# Altium integrated library Linear Technology PMIC-Switching Reg LT1074-LT8705.IntLib: 2252 symbols (part 98 of 124)
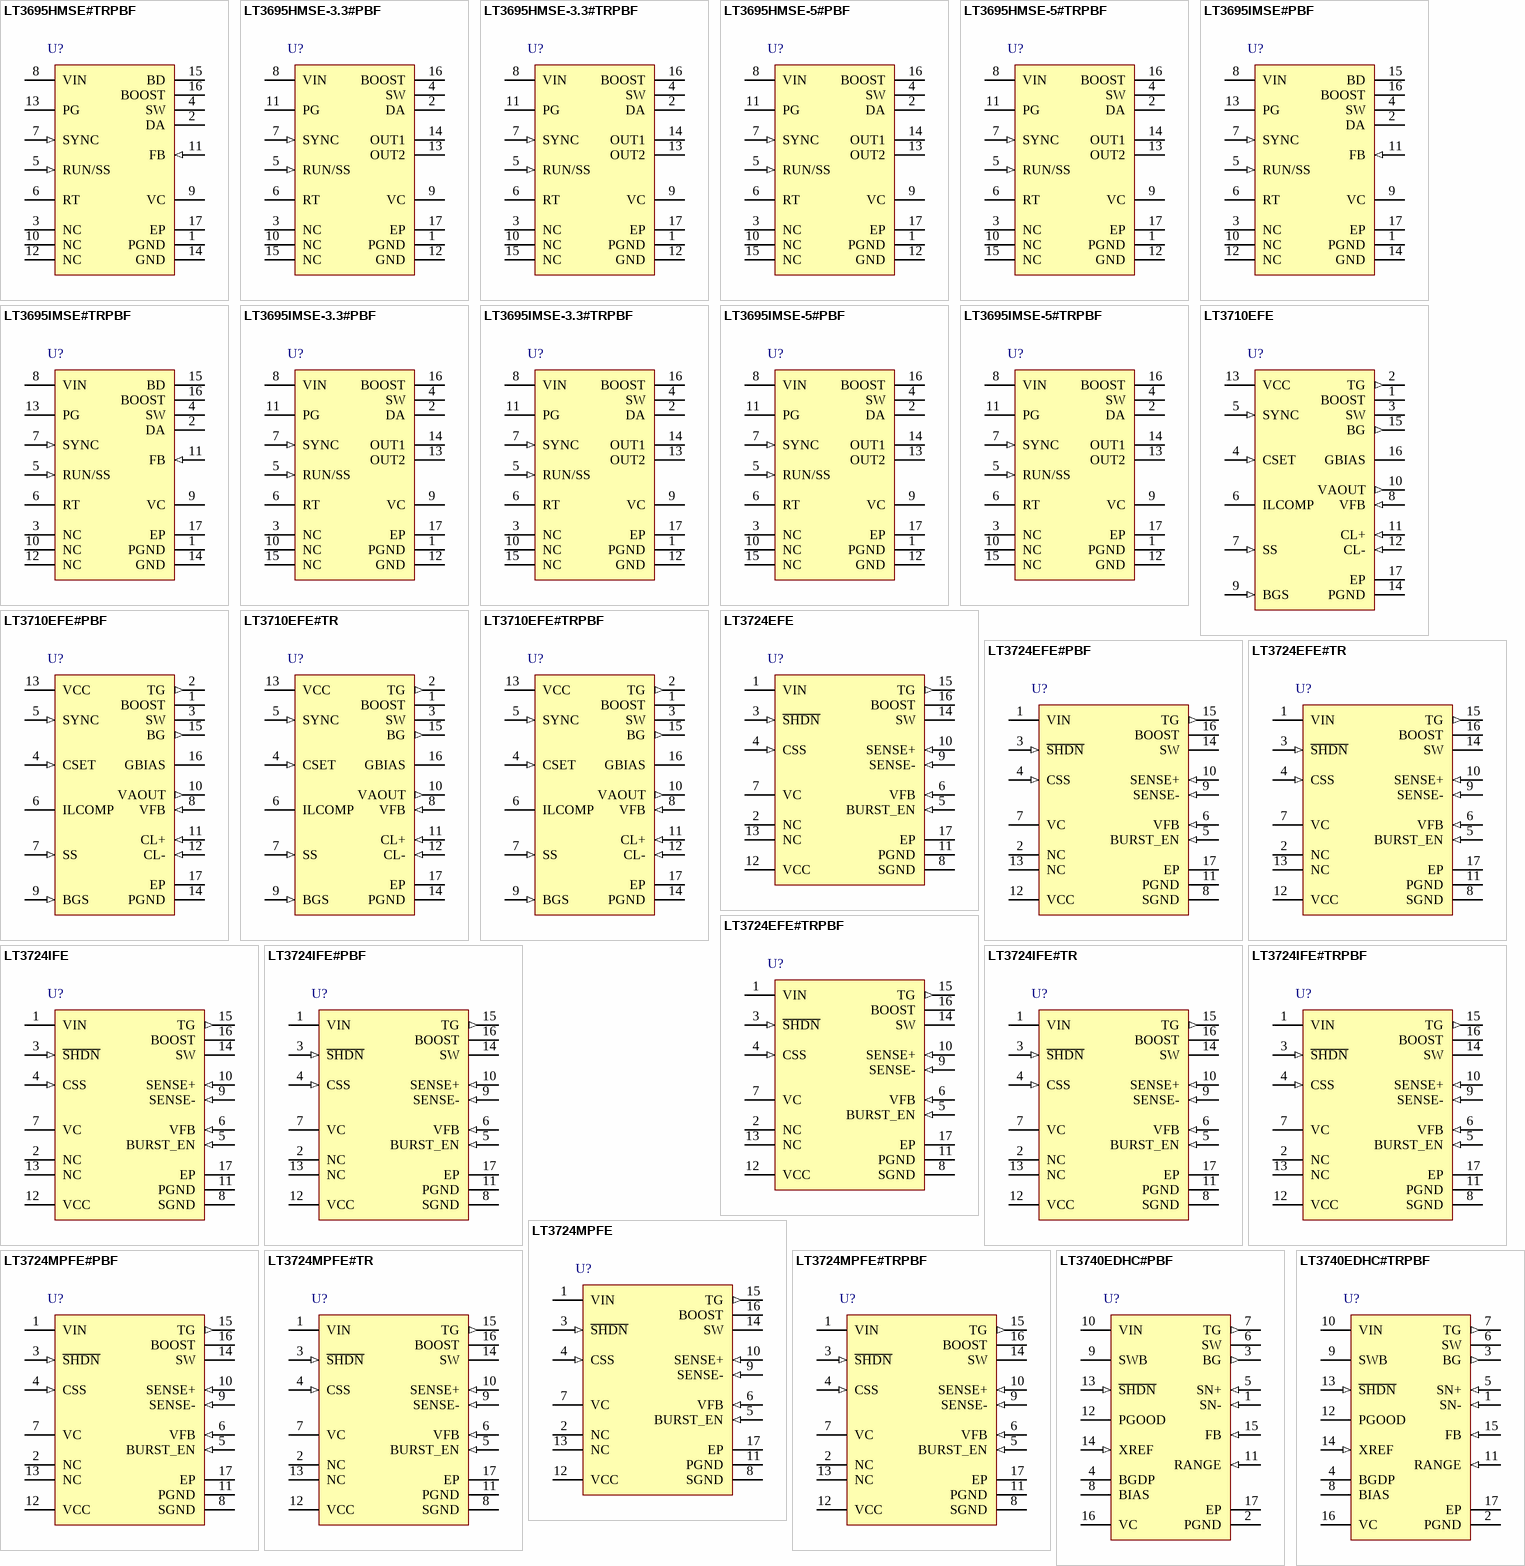
[diagram p168: symbols LT3695HMSE#TRPBF to LT3740EDHC#TRPBF]

## LT3724MPFE#PBF
designator U?
High Voltage, Current Mode Switching Regulator Controller, 16-pin SOP (FE-16-EPV-BC), -55 to 125 degC, Pb-Free; Manufacturer: Linear Technology; PartNumber: LT3724MPFE#PBF; Number of Outputs: 1; PackageReference: FE-16; PackageDescription: 16-Pin Plastic TSSOP, Body 5 x 4.4 mm, Pitch 0.65 mm; Supplier 1: Digi-Key; Supplier Part Number 1: LT3724MPFE#PBF-ND; RoHS: TRUE
footprint LT-FE-16-EPV-BC_N (SOP, 16-Leads, Body 5.1x4.5mm, Pitch 0.65mm, Thermal Pad 3.58x2.94mm, IPC Medium Density)
footprint LT-FE-16-EPV-BC_L (SOP, 16-Leads, Body 5.1x4.5mm, Pitch 0.65mm, Thermal Pad 3.58x2.94mm, IPC High Density)
footprint LT-FE-16-EPV-BC_M (SOP, 16-Leads, Body 5.1x4.5mm, Pitch 0.65mm, Thermal Pad 3.58x2.94mm, IPC Low Density)
pins: 1 VIN (power) "The VIN pin is the main supply pin and should be decoupled to SGND with a low ESR capacitor located close to the pin.", 2 NC "No Connection.", 3 ~{SHDN} (in) "The S\H\D\N\ pin has a precision IC enable threshold of 1.35V (rising) with 120mV of hysteresis. It is used to implement an undervoltage lockout (UVLO) circuit. See Application Information section for implementing a UVLO (See Datasheet)", 4 CSS (in) "The soft-start pin is used to program the supply soft-start function. The pin is connected to VOUT via a ceramic capacitor (CSS) and 200kohm series resistor. During start-up, the supply output voltage slew rate is controlled (See Datasheet)", 5 BURST_EN (in) "The BURST_EN pin is used to enable or disable Burst Mode operation. Connect the BURST_EN pin to ground to enable the burst mode function. Connect the pin to VCC to disable the burst mode function.", 6 VFB (in) "The output voltage feedback pin, VFB, is externally connected to the supply output voltage via a resistive divider. The VFB pin is internally connected to the inverting input of the error amplifier. In regulation, VFB is 1.(See Datasheet)", 7 VC "The VC pin is the output of the error amplifier whose voltage corresponds to the maximum (peak) switch current per oscillator cycle. The error amplifier is typically configured as an integrator circuit by connecting an RC (See Datasheet)", 8 SGND (power) "The SGND pin is the low noise ground reference. It should be connected to the -VOUT side of the output capacitors. Careful layout of the PCB is necessary to keep high currents away from this SGND connection. See the (See Datasheet)", 9 SENSE- (in) "The SENSE- pin is the negative input for the current sense amplifier and is connected to the VOUT side of the sense resistor for step-down applications. The sensed inductor current limit is set to 150mV across the SENSE (See Datasheet)", 10 SENSE+ (in) "The SENSE+ pin is the positive input for the current sense amplifier and is connected to the inductor side of the sense resistor for step-down applications. The sensed inductor current limit is set to 150mV across the SENSE (See Datasheet)", 11 PGND (power) "The PGND pin is the high-current ground reference for internal low side switch and the VCC regulator circuit. Connect the pin directly to the negative terminal of the VCC decoupling capacitor. See the Application Information (See Datasheet)", 12 VCC (power) "The VCC pin is the internal bias supply decoupling node. Use a low ESR 1uF ceramic capacitor to decouple this node to PGND. Most internal IC functions are powered from this bias supply. An external diode connected from VCC (See Datasheet)", 13 NC "No Connection.", 14 SW "In step-down applications the SW pin is connected to the cathode of an external clamping Schottky diode, the source of the power MOSFET and the inductor. The SW node voltage swing is from VIN during the on-time of the power (See Datasheet)", 15 TG (out) "The TG pin is the bootstrapped gate drive for the top N-Channel MOSFET. Since very fast high currents are driven from this pin, connect it to the gate of the power MOSFET with a short and wide, typically 0.02?width, PC(See Datasheet)", 16 BOOST "The BOOST pin is the supply for the bootstrapped gate drive and is externally connected to a low ESR ceramic boost capacitor referenced to SW pin. The recommended value of the BOOST capacitor, CBOOST, is 50 times greater (See Datasheet)", 17 EP (power) "The exposed leadframe is internally connected to the SGND pin. Solder the exposed pad to the PCB ground for electrical contact and optimal thermal performance."

## LT3724MPFE#TR
designator U?
High Voltage, Current Mode Switching Regulator Controller, 16-pin SOP (FE-16-EPV-BC), -55 to 125 degC, Tape and Reel; Manufacturer: Linear Technology; PartNumber: LT3724MPFE#TR; Number of Outputs: 1; PackageReference: FE-16; PackageDescription: 16-Pin Plastic TSSOP, Body 5 x 4.4 mm, Pitch 0.65 mm; RoHS: FALSE
footprint LT-FE-16-EPV-BC_N (SOP, 16-Leads, Body 5.1x4.5mm, Pitch 0.65mm, Thermal Pad 3.58x2.94mm, IPC Medium Density)
footprint LT-FE-16-EPV-BC_L (SOP, 16-Leads, Body 5.1x4.5mm, Pitch 0.65mm, Thermal Pad 3.58x2.94mm, IPC High Density)
footprint LT-FE-16-EPV-BC_M (SOP, 16-Leads, Body 5.1x4.5mm, Pitch 0.65mm, Thermal Pad 3.58x2.94mm, IPC Low Density)
pins: 1 VIN (power) "The VIN pin is the main supply pin and should be decoupled to SGND with a low ESR capacitor located close to the pin.", 2 NC "No Connection.", 3 ~{SHDN} (in) "The S\H\D\N\ pin has a precision IC enable threshold of 1.35V (rising) with 120mV of hysteresis. It is used to implement an undervoltage lockout (UVLO) circuit. See Application Information section for implementing a UVLO (See Datasheet)", 4 CSS (in) "The soft-start pin is used to program the supply soft-start function. The pin is connected to VOUT via a ceramic capacitor (CSS) and 200kohm series resistor. During start-up, the supply output voltage slew rate is controlled (See Datasheet)", 5 BURST_EN (in) "The BURST_EN pin is used to enable or disable Burst Mode operation. Connect the BURST_EN pin to ground to enable the burst mode function. Connect the pin to VCC to disable the burst mode function.", 6 VFB (in) "The output voltage feedback pin, VFB, is externally connected to the supply output voltage via a resistive divider. The VFB pin is internally connected to the inverting input of the error amplifier. In regulation, VFB is 1.(See Datasheet)", 7 VC "The VC pin is the output of the error amplifier whose voltage corresponds to the maximum (peak) switch current per oscillator cycle. The error amplifier is typically configured as an integrator circuit by connecting an RC (See Datasheet)", 8 SGND (power) "The SGND pin is the low noise ground reference. It should be connected to the -VOUT side of the output capacitors. Careful layout of the PCB is necessary to keep high currents away from this SGND connection. See the (See Datasheet)", 9 SENSE- (in) "The SENSE- pin is the negative input for the current sense amplifier and is connected to the VOUT side of the sense resistor for step-down applications. The sensed inductor current limit is set to 150mV across the SENSE (See Datasheet)", 10 SENSE+ (in) "The SENSE+ pin is the positive input for the current sense amplifier and is connected to the inductor side of the sense resistor for step-down applications. The sensed inductor current limit is set to 150mV across the SENSE (See Datasheet)", 11 PGND (power) "The PGND pin is the high-current ground reference for internal low side switch and the VCC regulator circuit. Connect the pin directly to the negative terminal of the VCC decoupling capacitor. See the Application Information (See Datasheet)", 12 VCC (power) "The VCC pin is the internal bias supply decoupling node. Use a low ESR 1uF ceramic capacitor to decouple this node to PGND. Most internal IC functions are powered from this bias supply. An external diode connected from VCC (See Datasheet)", 13 NC "No Connection.", 14 SW "In step-down applications the SW pin is connected to the cathode of an external clamping Schottky diode, the source of the power MOSFET and the inductor. The SW node voltage swing is from VIN during the on-time of the power (See Datasheet)", 15 TG (out) "The TG pin is the bootstrapped gate drive for the top N-Channel MOSFET. Since very fast high currents are driven from this pin, connect it to the gate of the power MOSFET with a short and wide, typically 0.02?width, PC(See Datasheet)", 16 BOOST "The BOOST pin is the supply for the bootstrapped gate drive and is externally connected to a low ESR ceramic boost capacitor referenced to SW pin. The recommended value of the BOOST capacitor, CBOOST, is 50 times greater (See Datasheet)", 17 EP (power) "The exposed leadframe is internally connected to the SGND pin. Solder the exposed pad to the PCB ground for electrical contact and optimal thermal performance."

## LT3724MPFE#TRPBF
designator U?
High Voltage, Current Mode Switching Regulator Controller, 16-pin SOP (FE-16-EPV-BC), -55 to 125 degC, Pb-Free, Tape and Reel; Manufacturer: Linear Technology; PartNumber: LT3724MPFE#TRPBF; Number of Outputs: 1; PackageReference: FE-16; PackageDescription: 16-Pin Plastic TSSOP, Body 5 x 4.4 mm, Pitch 0.65 mm; Supplier 1: Digi-Key; Supplier Part Number 1: LT3724MPFE#TRPBF-ND; RoHS: TRUE
footprint LT-FE-16-EPV-BC_N (SOP, 16-Leads, Body 5.1x4.5mm, Pitch 0.65mm, Thermal Pad 3.58x2.94mm, IPC Medium Density)
footprint LT-FE-16-EPV-BC_L (SOP, 16-Leads, Body 5.1x4.5mm, Pitch 0.65mm, Thermal Pad 3.58x2.94mm, IPC High Density)
footprint LT-FE-16-EPV-BC_M (SOP, 16-Leads, Body 5.1x4.5mm, Pitch 0.65mm, Thermal Pad 3.58x2.94mm, IPC Low Density)
pins: 1 VIN (power) "The VIN pin is the main supply pin and should be decoupled to SGND with a low ESR capacitor located close to the pin.", 2 NC "No Connection.", 3 ~{SHDN} (in) "The S\H\D\N\ pin has a precision IC enable threshold of 1.35V (rising) with 120mV of hysteresis. It is used to implement an undervoltage lockout (UVLO) circuit. See Application Information section for implementing a UVLO (See Datasheet)", 4 CSS (in) "The soft-start pin is used to program the supply soft-start function. The pin is connected to VOUT via a ceramic capacitor (CSS) and 200kohm series resistor. During start-up, the supply output voltage slew rate is controlled (See Datasheet)", 5 BURST_EN (in) "The BURST_EN pin is used to enable or disable Burst Mode operation. Connect the BURST_EN pin to ground to enable the burst mode function. Connect the pin to VCC to disable the burst mode function.", 6 VFB (in) "The output voltage feedback pin, VFB, is externally connected to the supply output voltage via a resistive divider. The VFB pin is internally connected to the inverting input of the error amplifier. In regulation, VFB is 1.(See Datasheet)", 7 VC "The VC pin is the output of the error amplifier whose voltage corresponds to the maximum (peak) switch current per oscillator cycle. The error amplifier is typically configured as an integrator circuit by connecting an RC (See Datasheet)", 8 SGND (power) "The SGND pin is the low noise ground reference. It should be connected to the -VOUT side of the output capacitors. Careful layout of the PCB is necessary to keep high currents away from this SGND connection. See the (See Datasheet)", 9 SENSE- (in) "The SENSE- pin is the negative input for the current sense amplifier and is connected to the VOUT side of the sense resistor for step-down applications. The sensed inductor current limit is set to 150mV across the SENSE (See Datasheet)", 10 SENSE+ (in) "The SENSE+ pin is the positive input for the current sense amplifier and is connected to the inductor side of the sense resistor for step-down applications. The sensed inductor current limit is set to 150mV across the SENSE (See Datasheet)", 11 PGND (power) "The PGND pin is the high-current ground reference for internal low side switch and the VCC regulator circuit. Connect the pin directly to the negative terminal of the VCC decoupling capacitor. See the Application Information (See Datasheet)", 12 VCC (power) "The VCC pin is the internal bias supply decoupling node. Use a low ESR 1uF ceramic capacitor to decouple this node to PGND. Most internal IC functions are powered from this bias supply. An external diode connected from VCC (See Datasheet)", 13 NC "No Connection.", 14 SW "In step-down applications the SW pin is connected to the cathode of an external clamping Schottky diode, the source of the power MOSFET and the inductor. The SW node voltage swing is from VIN during the on-time of the power (See Datasheet)", 15 TG (out) "The TG pin is the bootstrapped gate drive for the top N-Channel MOSFET. Since very fast high currents are driven from this pin, connect it to the gate of the power MOSFET with a short and wide, typically 0.02?width, PC(See Datasheet)", 16 BOOST "The BOOST pin is the supply for the bootstrapped gate drive and is externally connected to a low ESR ceramic boost capacitor referenced to SW pin. The recommended value of the BOOST capacitor, CBOOST, is 50 times greater (See Datasheet)", 17 EP (power) "The exposed leadframe is internally connected to the SGND pin. Solder the exposed pad to the PCB ground for electrical contact and optimal thermal performance."

## LT3740EDHC#PBF
designator U?
Wide Operating Range, Valley Mode, No Rsense Synchronous Step-Down Controller, 16-pin SON (DHC-16), -40 to 85 degC, Pb-Free; Manufacturer: Linear Technology; PartNumber: LT3740EDHC#PBF; Number of Outputs: 1; PackageReference: DHC-16; PackageDescription: 16-Pin Plastic DFN, Body 5 x 3 mm, Pitch 0.5 mm; Supplier 1: Digi-Key; Supplier Part Number 1: LT3740EDHC#PBF-ND; RoHS: TRUE
footprint LT-DHC-16_V (SON, 16-Leads, Body 5x3mm, Pitch 0.5mm, Thermal Pad 4.4X1.65mm)
pins: 1 SN- (in) "Negative Current Sensing Pin. Connect this pin to the source of the bottom MOSFET for No RSENSE or to a current sense resistor.", 2 PGND (power) "Power Ground. Connect this pin closely to the source of the bottom N-channel MOSFET.", 3 BG (out) "Bottom Gate Drive. Drives the gate of the bottom N-channel MOSFET.", 4 BGDP (power) "Bottom Gate Drive Power Supply. Connect this pin to a voltage source higher than 7V (VIN or BIAS).", 5 SN+ (in) "Positive Current Sensing Pin. Connect this pin to the drain of the bottom MOSFET for No RSENSE or to a current sense resistor.", 6 SW "Switch Node. Connect this pin to the source of the top N-channel MOSFET and the drain of the bottom N-channel MOSFET.", 7 TG (out) "Top Gate Drive. Drives the gate of the top N-channel MOSFET to BIAS.", 8 BIAS (power) "Top Gate Drive Power Supply. Connect a capacitor between this pin and VIN.", 9 SWB "Switch Pin of the Internal Boost. Connect the boost inductor here.", 10 VIN (power) "Input Supply Pin. Must be locally bypassed with a capacitor.", 11 RANGE (in) "Current Limit Range Select Pin. Ground this pin for 50mV current sense voltage limit. Leave this pin open for 80mV current sense voltage limit. Connect this pin to VIN for current sense voltage limit of 105mV.", 12 PGOOD (oc) "Power Good Output. Open collector logic output that is pulled low when the FB voltage lower than 720mV.", 13 ~{SHDN} (in) "Shutdown Pin. Connect to 2.5V or higher to enable device; 0.5V or less to disable device. Also, this pin functions as soft-start when a voltage ramp is applied.", 14 XREF (in) "External Reference Pin. This pin sets the FB voltage externally between 0V and 0.8V. It can be used to slave the output voltage during normal operation or the output start-up behavior to an external signal source. Tie this (See Datasheet)", 15 FB (in) "Feedback Pin. Pin voltage is regulated to 0.8V if internal reference is used or to the XREF pin if voltage is between 0V and 0.8V. Connect the feedback resistor divider to this pin.", 16 VC "Error Ampli?er Compensation Pin. Connect the external compensation RC to this pin. The current comparator threshold increases with the voltage of this pin.", 17 EP (power) "Ground. Must be soldered to PCB ground."

## LT3740EDHC#TRPBF
designator U?
Wide Operating Range, Valley Mode, No Rsense Synchronous Step-Down Controller, 16-pin SON (DHC-16), -40 to 85 degC, Pb-Free, Tape and Reel; Manufacturer: Linear Technology; PartNumber: LT3740EDHC#TRPBF; Number of Outputs: 1; PackageReference: DHC-16; PackageDescription: 16-Pin Plastic DFN, Body 5 x 3 mm, Pitch 0.5 mm; Supplier 1: Digi-Key; Supplier Part Number 1: LT3740EDHC#TRPBF-ND; RoHS: TRUE
footprint LT-DHC-16_V (SON, 16-Leads, Body 5x3mm, Pitch 0.5mm, Thermal Pad 4.4X1.65mm)
pins: 1 SN- (in) "Negative Current Sensing Pin. Connect this pin to the source of the bottom MOSFET for No RSENSE or to a current sense resistor.", 2 PGND (power) "Power Ground. Connect this pin closely to the source of the bottom N-channel MOSFET.", 3 BG (out) "Bottom Gate Drive. Drives the gate of the bottom N-channel MOSFET.", 4 BGDP (power) "Bottom Gate Drive Power Supply. Connect this pin to a voltage source higher than 7V (VIN or BIAS).", 5 SN+ (in) "Positive Current Sensing Pin. Connect this pin to the drain of the bottom MOSFET for No RSENSE or to a current sense resistor.", 6 SW "Switch Node. Connect this pin to the source of the top N-channel MOSFET and the drain of the bottom N-channel MOSFET.", 7 TG (out) "Top Gate Drive. Drives the gate of the top N-channel MOSFET to BIAS.", 8 BIAS (power) "Top Gate Drive Power Supply. Connect a capacitor between this pin and VIN.", 9 SWB "Switch Pin of the Internal Boost. Connect the boost inductor here.", 10 VIN (power) "Input Supply Pin. Must be locally bypassed with a capacitor.", 11 RANGE (in) "Current Limit Range Select Pin. Ground this pin for 50mV current sense voltage limit. Leave this pin open for 80mV current sense voltage limit. Connect this pin to VIN for current sense voltage limit of 105mV.", 12 PGOOD (oc) "Power Good Output. Open collector logic output that is pulled low when the FB voltage lower than 720mV.", 13 ~{SHDN} (in) "Shutdown Pin. Connect to 2.5V or higher to enable device; 0.5V or less to disable device. Also, this pin functions as soft-start when a voltage ramp is applied.", 14 XREF (in) "External Reference Pin. This pin sets the FB voltage externally between 0V and 0.8V. It can be used to slave the output voltage during normal operation or the output start-up behavior to an external signal source. Tie this (See Datasheet)", 15 FB (in) "Feedback Pin. Pin voltage is regulated to 0.8V if internal reference is used or to the XREF pin if voltage is between 0V and 0.8V. Connect the feedback resistor divider to this pin.", 16 VC "Error Ampli?er Compensation Pin. Connect the external compensation RC to this pin. The current comparator threshold increases with the voltage of this pin.", 17 EP (power) "Ground. Must be soldered to PCB ground."

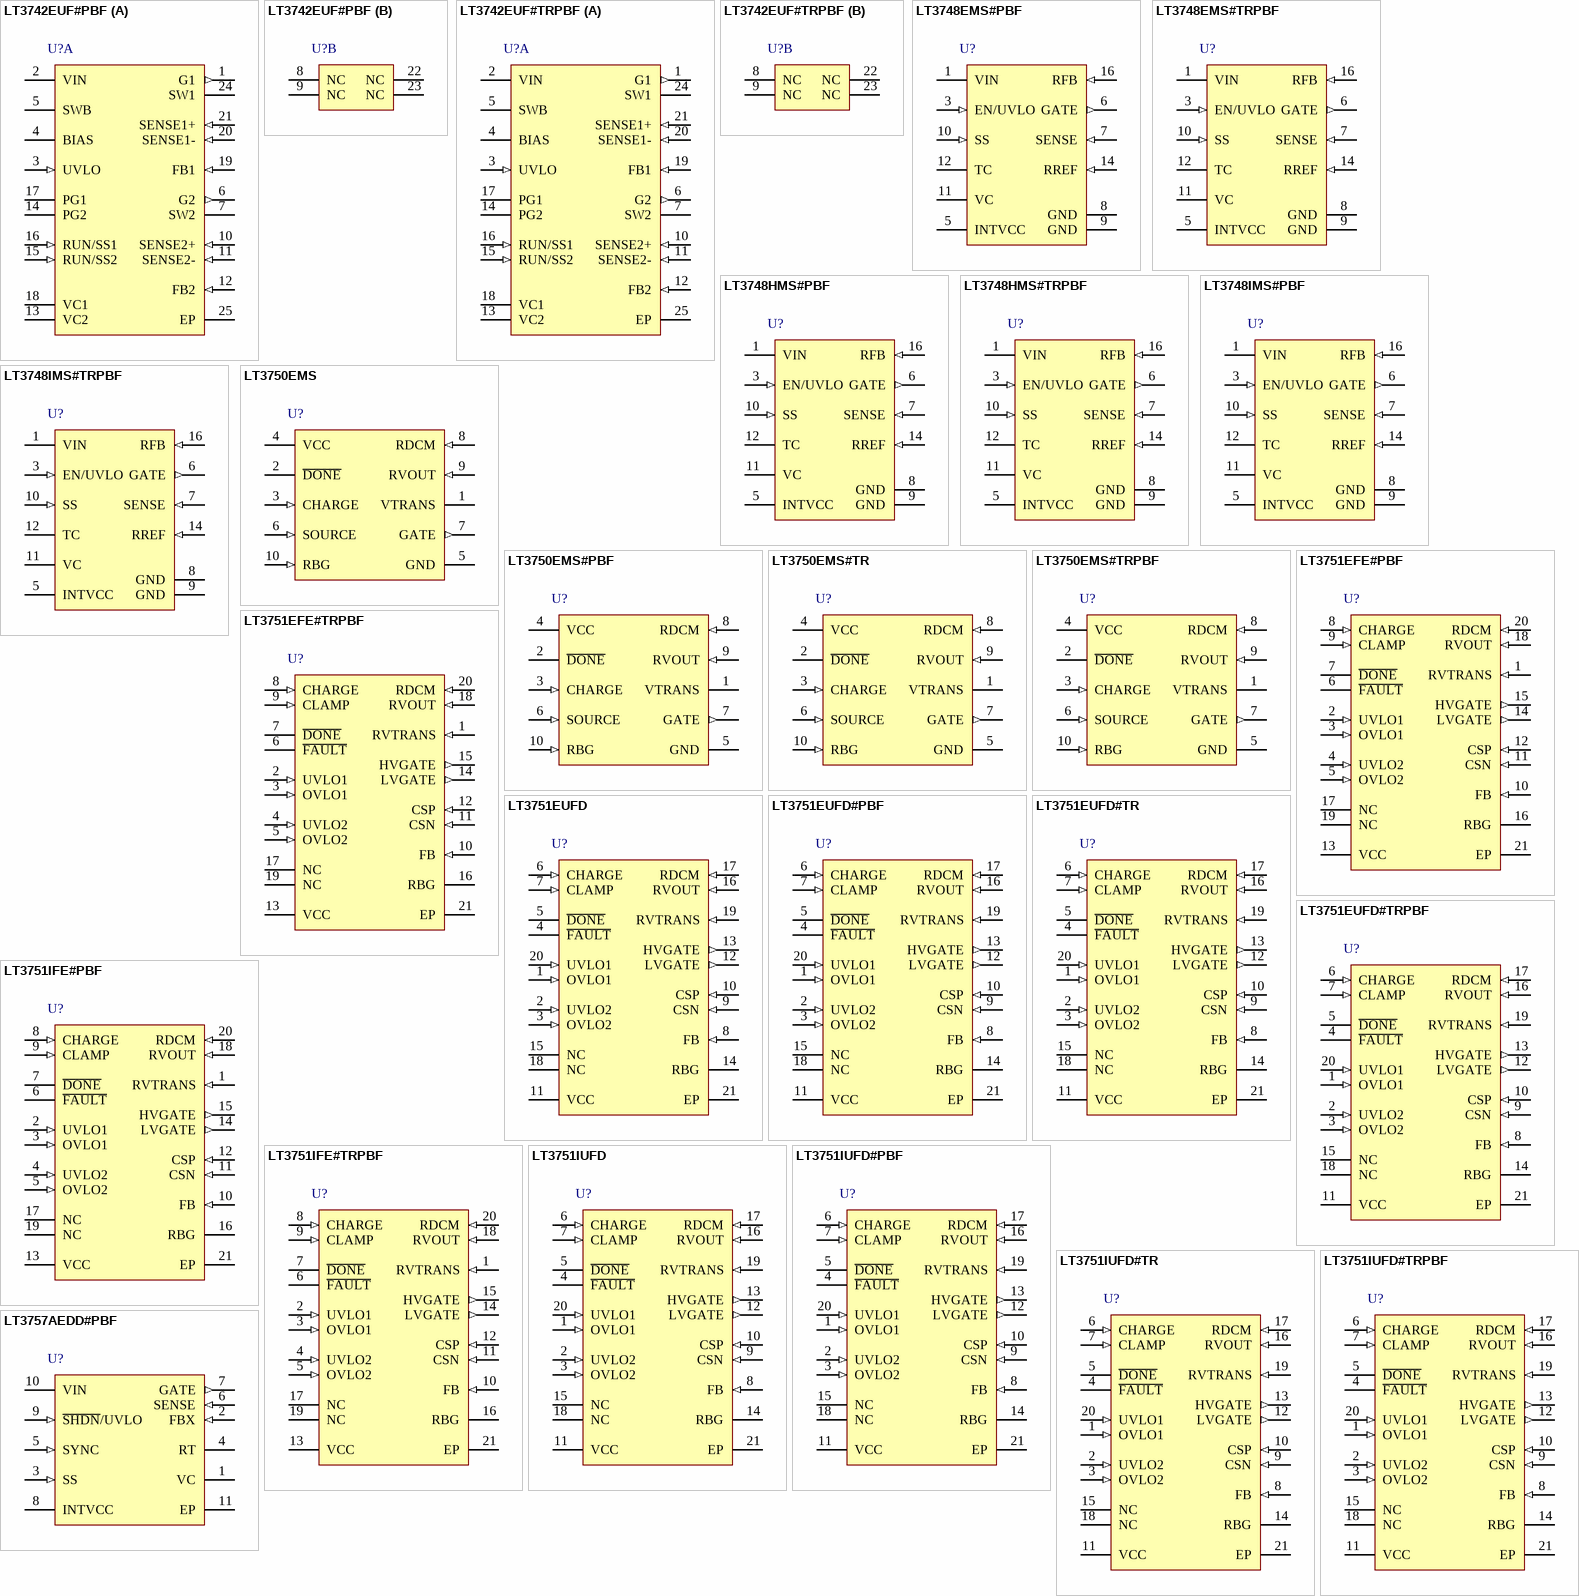
[diagram p57: symbols LT3742EUF#PBF to LT3757AEDD#PBF]

## LT3742EUF#PBF
designator U?
Dual, 2-Phase Step-Down Switching Controller, 24-pin QFN (UF24), -40 to 125 degC, Pb-Free; Manufacturer: Linear Technology; PartNumber: LT3742EUF#PBF; Number of Outputs: 2; PackageReference: UF24; PackageDescription: 24-Pin Plastic QFN, Body 4 x 4 mm, Pitch 0.5 mm; Supplier 1: Digi-Key; Supplier Part Number 1: LT3742EUF#PBF-ND; RoHS: TRUE
footprint LT-UF-24_N (QFN, 24-Leads, Body 4.1x4.1mm, Pitch 0.5mm, Thermal Pad 2.45x2.45mm, IPC Medium Density)
footprint LT-UF-24_L (QFN, 24-Leads, Body 4.1x4.1mm, Pitch 0.5mm, Thermal Pad 2.45x2.45mm, IPC High Density)
footprint LT-UF-24_M (QFN, 24-Leads, Body 4.1x4.1mm, Pitch 0.5mm, Thermal Pad 2.45x2.45mm, IPC Low Density)
part A pins: 1 G1 (out) "Gate Drives. These pins provide high current gate drive for the external N-channel MOSFETs. These pins are the outputs of floating drivers whose voltage swings between the BIAS and SW pins.", 2 VIN (power) "Input Voltage. This pin supplies current to the internal circuitry of the LT3742. This pin must be locally bypassed with a capacitor.", 3 UVLO (in) "Undervoltage Lockout. Do not leave this pin open ; connect it to VIN if not used. A resistor divider connected to VIN is tied to this pin to program the minimum input voltage at which the LT3742 will operate. When this pin (See Datasheet)", 4 BIAS (power) "Bias for Gate Drive. This pin provides a bias voltage higher than the input voltage to drive the external N-channel MOSFETs. The voltage on this pin is regulated to VIN + 7V.", 5 SWB "Bias Regulator Switch. This is the collector of an internal NPN switch used to generate the bias voltage to provide gate drive for the external N-channel MOSFETs.", 6 G2 (out) "Gate Drives. These pins provide high current gate drive for the external N-channel MOSFETs. These pins are the outputs of floating drivers whose voltage swings between the BIAS and SW pins.", 7 SW2 "Switch Nodes. These pins connect to the source of the external N-channel MOSFETs and to the external inductors and diodes.", 10 SENSE2+ (in) "Positive Current Sense Inputs. These pins (along with the SENSE- pins) are used to sense the inductor current for each switching regulator.", 11 SENSE2- (in) "Negative Current Sense Inputs. These pins (along with the SENSE+ pins) are used to sense the inductor current for each switching regulator.", 12 FB2 (in) "Feedback Pins. The LT3742 regulates these pins to 800mV. Connect the feedback resistors to this pin to set the output voltage for each switching regulator.", 13 VC2 "Control Voltage and Compensation Pins for Internal Error Amplifiers. Connect a series RC from these pins to ground to compensate each switching regulator loop.", 14 PG2 (oc) "Power Good. These pins are open-collector outputs of internal comparators. PG remains low until the FB pin is within 90% of the final regulation voltage. As well as indicating output regulation, the PG pins can be used to (See Datasheet)", 15 RUN/SS2 (in) "Run/Soft-Start Pins. These pins are used to shut down each controller. They also provide a soft-start function with the addition of an external capacitor. To shut down any regulator, pull the RUN/SS pin to ground with an (See Datasheet)", 16 RUN/SS1 (in) "Run/Soft-Start Pins. These pins are used to shut down each controller. They also provide a soft-start function with the addition of an external capacitor. To shut down any regulator, pull the RUN/SS pin to ground with an (See Datasheet)", 17 PG1 (oc) "Power Good. These pins are open-collector outputs of internal comparators. PG remains low until the FB pin is within 90% of the final regulation voltage. As well as indicating output regulation, the PG pins can be used to (See Datasheet)", 18 VC1 "Control Voltage and Compensation Pins for Internal Error Amplifiers. Connect a series RC from these pins to ground to compensate each switching regulator loop.", 19 FB1 (in) "Feedback Pins. The LT3742 regulates these pins to 800mV. Connect the feedback resistors to this pin to set the output voltage for each switching regulator.", 20 SENSE1- (in) "Negative Current Sense Inputs. These pins (along with the SENSE+ pins) are used to sense the inductor current for each switching regulator.", 21 SENSE1+ (in) "Positive Current Sense Inputs. These pins (along with the SENSE- pins) are used to sense the inductor current for each switching regulator.", 24 SW1 "Switch Nodes. These pins connect to the source of the external N-channel MOSFETs and to the external inductors and diodes.", 25 EP (power) "Ground. The Exposed Pad of the package provides both electrical contact to ground and good thermal contact to the printed circuit board. The Exposed Pad must be soldered to the circuit board to ensure proper operation."
part B pins: 8 NC, 9 NC, 22 NC, 23 NC

## LT3742EUF#TRPBF
designator U?
Dual, 2-Phase Step-Down Switching Controller, 24-pin QFN (UF24), -40 to 125 degC, Pb-Free, Tape and Reel; Manufacturer: Linear Technology; PartNumber: LT3742EUF#TRPBF; Number of Outputs: 2; PackageReference: UF24; PackageDescription: 24-Pin Plastic QFN, Body 4 x 4 mm, Pitch 0.5 mm; Supplier 1: Digi-Key; Supplier Part Number 1: LT3742EUF#TRPBF-ND; RoHS: TRUE
footprint LT-UF-24_N (QFN, 24-Leads, Body 4.1x4.1mm, Pitch 0.5mm, Thermal Pad 2.45x2.45mm, IPC Medium Density)
footprint LT-UF-24_L (QFN, 24-Leads, Body 4.1x4.1mm, Pitch 0.5mm, Thermal Pad 2.45x2.45mm, IPC High Density)
footprint LT-UF-24_M (QFN, 24-Leads, Body 4.1x4.1mm, Pitch 0.5mm, Thermal Pad 2.45x2.45mm, IPC Low Density)
part A pins: 1 G1 (out) "Gate Drives. These pins provide high current gate drive for the external N-channel MOSFETs. These pins are the outputs of floating drivers whose voltage swings between the BIAS and SW pins.", 2 VIN (power) "Input Voltage. This pin supplies current to the internal circuitry of the LT3742. This pin must be locally bypassed with a capacitor.", 3 UVLO (in) "Undervoltage Lockout. Do not leave this pin open ; connect it to VIN if not used. A resistor divider connected to VIN is tied to this pin to program the minimum input voltage at which the LT3742 will operate. When this pin (See Datasheet)", 4 BIAS (power) "Bias for Gate Drive. This pin provides a bias voltage higher than the input voltage to drive the external N-channel MOSFETs. The voltage on this pin is regulated to VIN + 7V.", 5 SWB "Bias Regulator Switch. This is the collector of an internal NPN switch used to generate the bias voltage to provide gate drive for the external N-channel MOSFETs.", 6 G2 (out) "Gate Drives. These pins provide high current gate drive for the external N-channel MOSFETs. These pins are the outputs of floating drivers whose voltage swings between the BIAS and SW pins.", 7 SW2 "Switch Nodes. These pins connect to the source of the external N-channel MOSFETs and to the external inductors and diodes.", 10 SENSE2+ (in) "Positive Current Sense Inputs. These pins (along with the SENSE- pins) are used to sense the inductor current for each switching regulator.", 11 SENSE2- (in) "Negative Current Sense Inputs. These pins (along with the SENSE+ pins) are used to sense the inductor current for each switching regulator.", 12 FB2 (in) "Feedback Pins. The LT3742 regulates these pins to 800mV. Connect the feedback resistors to this pin to set the output voltage for each switching regulator.", 13 VC2 "Control Voltage and Compensation Pins for Internal Error Amplifiers. Connect a series RC from these pins to ground to compensate each switching regulator loop.", 14 PG2 (oc) "Power Good. These pins are open-collector outputs of internal comparators. PG remains low until the FB pin is within 90% of the final regulation voltage. As well as indicating output regulation, the PG pins can be used to (See Datasheet)", 15 RUN/SS2 (in) "Run/Soft-Start Pins. These pins are used to shut down each controller. They also provide a soft-start function with the addition of an external capacitor. To shut down any regulator, pull the RUN/SS pin to ground with an (See Datasheet)", 16 RUN/SS1 (in) "Run/Soft-Start Pins. These pins are used to shut down each controller. They also provide a soft-start function with the addition of an external capacitor. To shut down any regulator, pull the RUN/SS pin to ground with an (See Datasheet)", 17 PG1 (oc) "Power Good. These pins are open-collector outputs of internal comparators. PG remains low until the FB pin is within 90% of the final regulation voltage. As well as indicating output regulation, the PG pins can be used to (See Datasheet)", 18 VC1 "Control Voltage and Compensation Pins for Internal Error Amplifiers. Connect a series RC from these pins to ground to compensate each switching regulator loop.", 19 FB1 (in) "Feedback Pins. The LT3742 regulates these pins to 800mV. Connect the feedback resistors to this pin to set the output voltage for each switching regulator.", 20 SENSE1- (in) "Negative Current Sense Inputs. These pins (along with the SENSE+ pins) are used to sense the inductor current for each switching regulator.", 21 SENSE1+ (in) "Positive Current Sense Inputs. These pins (along with the SENSE- pins) are used to sense the inductor current for each switching regulator.", 24 SW1 "Switch Nodes. These pins connect to the source of the external N-channel MOSFETs and to the external inductors and diodes.", 25 EP (power) "Ground. The Exposed Pad of the package provides both electrical contact to ground and good thermal contact to the printed circuit board. The Exposed Pad must be soldered to the circuit board to ensure proper operation."
part B pins: 8 NC, 9 NC, 22 NC, 23 NC

## LT3748EMS#PBF
designator U?
Isolated Flyback Controller, 16-pin SOP (MS-16), -40 to 125 degC, Pb-Free; Manufacturer: Linear Technology; PartNumber: LT3748EMS#PBF; Number of Outputs: 1; PackageReference: MS-16; PackageDescription: 12-Pin Plastic MSOP, Body 4.039 x 3 mm, Pitch 0.5 mm; Supplier 1: Digi-Key; Supplier Part Number 1: LT3748EMS#PBF-ND; RoHS: TRUE
footprint LT-MS-16-4PR_N (SOP, 12-Leads, Body 4.1x3.1mm, Pitch 0.5mm, IPC Medium Density)
footprint LT-MS-16-4PR_L (SOP, 12-Leads, Body 4.1x3.1mm, Pitch 0.5mm, IPC High Density)
footprint LT-MS-16-4PR_M (SOP, 12-Leads, Body 4.1x3.1mm, Pitch 0.5mm, IPC Low Density)
pins: 1 VIN (power) "Input Voltage. This pin supplies current to the internal start-up circuitry and is the reference voltage for the feedback circuitry connected to the RFB pin. This pin must be locally bypassed with a capacitor.", 3 EN/UVLO (in), 5 INTVCC (power) "Gate Driver Bias Voltage. This pin supplies current to the internal gate driver circuitry of the LT3748. The INTVCC pin must be locally bypassed with a capacitor. This pin may also be connected to VIN if a third winding is (See Datasheet)", 6 GATE (out) "N-Channel MOSFET Gate Driver Output. Switches between INTVCC and GND.", 7 SENSE (in) "The Current Sense Input for the Control Loop. Kelvin connect this pin to the positive terminal of the switch current sense resistor, RSENSE, in the source of the N-channel MOSFET. The negative terminal of the current sense (See Datasheet)", 8 GND (power) "Ground.", 9 GND (power) "Ground.", 10 SS (in) "Soft-Start Pin. This pin delays start-up and clamps VC pin voltage. Soft-start timing is set by the size of the external capacitor at the pin. Switching starts when VSS reaches ~0.65V.", 11 VC "Compensation Pin for the Internal Error Amplifier. Connect a series RC from this pin to ground to compensate the switching regulator. A 100pF capacitor in parallel helps eliminate noise.", 12 TC "Output Voltage Temperature Compensation. Connect a resistor to ground to produce a current proportional to absolute temperature to be sourced into the RREF node. ITC = 0.55V/RTC.", 14 RREF (in) "Input Pin for the External Ground-Referred Reference Resistor. The resistor at this pin should be 6.04k, but for convenience in selecting a resistor divider ratio, the value may range from 5.76k to 6.34k. The resistor should (See Datasheet)", 16 RFB (in) "Input Pin for the External Feedback Resistor. This pin is connected to the transformer primary at the external MOSFET power switch. The ratio of this resistor to the RREF resistor, times the internal bandgap reference, (See Datasheet)"

## LT3748EMS#TRPBF
designator U?
Isolated Flyback Controller, 16-pin SOP (MS-16), -40 to 125 degC, Pb-Free, Tape and Reel; Manufacturer: Linear Technology; PartNumber: LT3748EMS#TRPBF; Number of Outputs: 1; PackageReference: MS-16; PackageDescription: 12-Pin Plastic MSOP, Body 4.039 x 3 mm, Pitch 0.5 mm; Supplier 1: Digi-Key; Supplier Part Number 1: LT3748EMS#TRPBF-ND; RoHS: TRUE
footprint LT-MS-16-4PR_N (SOP, 12-Leads, Body 4.1x3.1mm, Pitch 0.5mm, IPC Medium Density)
footprint LT-MS-16-4PR_L (SOP, 12-Leads, Body 4.1x3.1mm, Pitch 0.5mm, IPC High Density)
footprint LT-MS-16-4PR_M (SOP, 12-Leads, Body 4.1x3.1mm, Pitch 0.5mm, IPC Low Density)
pins: 1 VIN (power) "Input Voltage. This pin supplies current to the internal start-up circuitry and is the reference voltage for the feedback circuitry connected to the RFB pin. This pin must be locally bypassed with a capacitor.", 3 EN/UVLO (in), 5 INTVCC (power) "Gate Driver Bias Voltage. This pin supplies current to the internal gate driver circuitry of the LT3748. The INTVCC pin must be locally bypassed with a capacitor. This pin may also be connected to VIN if a third winding is (See Datasheet)", 6 GATE (out) "N-Channel MOSFET Gate Driver Output. Switches between INTVCC and GND.", 7 SENSE (in) "The Current Sense Input for the Control Loop. Kelvin connect this pin to the positive terminal of the switch current sense resistor, RSENSE, in the source of the N-channel MOSFET. The negative terminal of the current sense (See Datasheet)", 8 GND (power) "Ground.", 9 GND (power) "Ground.", 10 SS (in) "Soft-Start Pin. This pin delays start-up and clamps VC pin voltage. Soft-start timing is set by the size of the external capacitor at the pin. Switching starts when VSS reaches ~0.65V.", 11 VC "Compensation Pin for the Internal Error Amplifier. Connect a series RC from this pin to ground to compensate the switching regulator. A 100pF capacitor in parallel helps eliminate noise.", 12 TC "Output Voltage Temperature Compensation. Connect a resistor to ground to produce a current proportional to absolute temperature to be sourced into the RREF node. ITC = 0.55V/RTC.", 14 RREF (in) "Input Pin for the External Ground-Referred Reference Resistor. The resistor at this pin should be 6.04k, but for convenience in selecting a resistor divider ratio, the value may range from 5.76k to 6.34k. The resistor should (See Datasheet)", 16 RFB (in) "Input Pin for the External Feedback Resistor. This pin is connected to the transformer primary at the external MOSFET power switch. The ratio of this resistor to the RREF resistor, times the internal bandgap reference, (See Datasheet)"

## LT3748HMS#PBF
designator U?
Isolated Flyback Controller, 16-pin SOP (MS-16), -40 to 150 degC, Pb-Free; Manufacturer: Linear Technology; PartNumber: LT3748HMS#PBF; Number of Outputs: 1; PackageReference: MS-16; PackageDescription: 12-Pin Plastic MSOP, Body 4.039 x 3 mm, Pitch 0.5 mm; Supplier 1: Digi-Key; Supplier Part Number 1: LT3748HMS#PBF-ND; RoHS: TRUE
footprint LT-MS-16-4PR_N (SOP, 12-Leads, Body 4.1x3.1mm, Pitch 0.5mm, IPC Medium Density)
footprint LT-MS-16-4PR_L (SOP, 12-Leads, Body 4.1x3.1mm, Pitch 0.5mm, IPC High Density)
footprint LT-MS-16-4PR_M (SOP, 12-Leads, Body 4.1x3.1mm, Pitch 0.5mm, IPC Low Density)
pins: 1 VIN (power) "Input Voltage. This pin supplies current to the internal start-up circuitry and is the reference voltage for the feedback circuitry connected to the RFB pin. This pin must be locally bypassed with a capacitor.", 3 EN/UVLO (in), 5 INTVCC (power) "Gate Driver Bias Voltage. This pin supplies current to the internal gate driver circuitry of the LT3748. The INTVCC pin must be locally bypassed with a capacitor. This pin may also be connected to VIN if a third winding is (See Datasheet)", 6 GATE (out) "N-Channel MOSFET Gate Driver Output. Switches between INTVCC and GND.", 7 SENSE (in) "The Current Sense Input for the Control Loop. Kelvin connect this pin to the positive terminal of the switch current sense resistor, RSENSE, in the source of the N-channel MOSFET. The negative terminal of the current sense (See Datasheet)", 8 GND (power) "Ground.", 9 GND (power) "Ground.", 10 SS (in) "Soft-Start Pin. This pin delays start-up and clamps VC pin voltage. Soft-start timing is set by the size of the external capacitor at the pin. Switching starts when VSS reaches ~0.65V.", 11 VC "Compensation Pin for the Internal Error Amplifier. Connect a series RC from this pin to ground to compensate the switching regulator. A 100pF capacitor in parallel helps eliminate noise.", 12 TC "Output Voltage Temperature Compensation. Connect a resistor to ground to produce a current proportional to absolute temperature to be sourced into the RREF node. ITC = 0.55V/RTC.", 14 RREF (in) "Input Pin for the External Ground-Referred Reference Resistor. The resistor at this pin should be 6.04k, but for convenience in selecting a resistor divider ratio, the value may range from 5.76k to 6.34k. The resistor should (See Datasheet)", 16 RFB (in) "Input Pin for the External Feedback Resistor. This pin is connected to the transformer primary at the external MOSFET power switch. The ratio of this resistor to the RREF resistor, times the internal bandgap reference, (See Datasheet)"

## LT3748HMS#TRPBF
designator U?
Isolated Flyback Controller, 16-pin SOP (MS-16), -40 to 150 degC, Pb-Free, Tape and Reel; Manufacturer: Linear Technology; PartNumber: LT3748HMS#TRPBF; Number of Outputs: 1; PackageReference: MS-16; PackageDescription: 12-Pin Plastic MSOP, Body 4.039 x 3 mm, Pitch 0.5 mm; Supplier 1: Digi-Key; Supplier Part Number 1: LT3748HMS#TRPBF-ND; RoHS: TRUE
footprint LT-MS-16-4PR_N (SOP, 12-Leads, Body 4.1x3.1mm, Pitch 0.5mm, IPC Medium Density)
footprint LT-MS-16-4PR_L (SOP, 12-Leads, Body 4.1x3.1mm, Pitch 0.5mm, IPC High Density)
footprint LT-MS-16-4PR_M (SOP, 12-Leads, Body 4.1x3.1mm, Pitch 0.5mm, IPC Low Density)
pins: 1 VIN (power) "Input Voltage. This pin supplies current to the internal start-up circuitry and is the reference voltage for the feedback circuitry connected to the RFB pin. This pin must be locally bypassed with a capacitor.", 3 EN/UVLO (in), 5 INTVCC (power) "Gate Driver Bias Voltage. This pin supplies current to the internal gate driver circuitry of the LT3748. The INTVCC pin must be locally bypassed with a capacitor. This pin may also be connected to VIN if a third winding is (See Datasheet)", 6 GATE (out) "N-Channel MOSFET Gate Driver Output. Switches between INTVCC and GND.", 7 SENSE (in) "The Current Sense Input for the Control Loop. Kelvin connect this pin to the positive terminal of the switch current sense resistor, RSENSE, in the source of the N-channel MOSFET. The negative terminal of the current sense (See Datasheet)", 8 GND (power) "Ground.", 9 GND (power) "Ground.", 10 SS (in) "Soft-Start Pin. This pin delays start-up and clamps VC pin voltage. Soft-start timing is set by the size of the external capacitor at the pin. Switching starts when VSS reaches ~0.65V.", 11 VC "Compensation Pin for the Internal Error Amplifier. Connect a series RC from this pin to ground to compensate the switching regulator. A 100pF capacitor in parallel helps eliminate noise.", 12 TC "Output Voltage Temperature Compensation. Connect a resistor to ground to produce a current proportional to absolute temperature to be sourced into the RREF node. ITC = 0.55V/RTC.", 14 RREF (in) "Input Pin for the External Ground-Referred Reference Resistor. The resistor at this pin should be 6.04k, but for convenience in selecting a resistor divider ratio, the value may range from 5.76k to 6.34k. The resistor should (See Datasheet)", 16 RFB (in) "Input Pin for the External Feedback Resistor. This pin is connected to the transformer primary at the external MOSFET power switch. The ratio of this resistor to the RREF resistor, times the internal bandgap reference, (See Datasheet)"

## LT3748IMS#PBF
designator U?
Isolated Flyback Controller, 16-pin SOP (MS-16), -40 to 125 degC, Pb-Free; Manufacturer: Linear Technology; PartNumber: LT3748IMS#PBF; Number of Outputs: 1; PackageReference: MS-16; PackageDescription: 12-Pin Plastic MSOP, Body 4.039 x 3 mm, Pitch 0.5 mm; Supplier 1: Digi-Key; Supplier Part Number 1: LT3748IMS#PBF-ND; RoHS: TRUE
footprint LT-MS-16-4PR_N (SOP, 12-Leads, Body 4.1x3.1mm, Pitch 0.5mm, IPC Medium Density)
footprint LT-MS-16-4PR_L (SOP, 12-Leads, Body 4.1x3.1mm, Pitch 0.5mm, IPC High Density)
footprint LT-MS-16-4PR_M (SOP, 12-Leads, Body 4.1x3.1mm, Pitch 0.5mm, IPC Low Density)
pins: 1 VIN (power) "Input Voltage. This pin supplies current to the internal start-up circuitry and is the reference voltage for the feedback circuitry connected to the RFB pin. This pin must be locally bypassed with a capacitor.", 3 EN/UVLO (in), 5 INTVCC (power) "Gate Driver Bias Voltage. This pin supplies current to the internal gate driver circuitry of the LT3748. The INTVCC pin must be locally bypassed with a capacitor. This pin may also be connected to VIN if a third winding is (See Datasheet)", 6 GATE (out) "N-Channel MOSFET Gate Driver Output. Switches between INTVCC and GND.", 7 SENSE (in) "The Current Sense Input for the Control Loop. Kelvin connect this pin to the positive terminal of the switch current sense resistor, RSENSE, in the source of the N-channel MOSFET. The negative terminal of the current sense (See Datasheet)", 8 GND (power) "Ground.", 9 GND (power) "Ground.", 10 SS (in) "Soft-Start Pin. This pin delays start-up and clamps VC pin voltage. Soft-start timing is set by the size of the external capacitor at the pin. Switching starts when VSS reaches ~0.65V.", 11 VC "Compensation Pin for the Internal Error Amplifier. Connect a series RC from this pin to ground to compensate the switching regulator. A 100pF capacitor in parallel helps eliminate noise.", 12 TC "Output Voltage Temperature Compensation. Connect a resistor to ground to produce a current proportional to absolute temperature to be sourced into the RREF node. ITC = 0.55V/RTC.", 14 RREF (in) "Input Pin for the External Ground-Referred Reference Resistor. The resistor at this pin should be 6.04k, but for convenience in selecting a resistor divider ratio, the value may range from 5.76k to 6.34k. The resistor should (See Datasheet)", 16 RFB (in) "Input Pin for the External Feedback Resistor. This pin is connected to the transformer primary at the external MOSFET power switch. The ratio of this resistor to the RREF resistor, times the internal bandgap reference, (See Datasheet)"

## LT3748IMS#TRPBF
designator U?
Isolated Flyback Controller, 16-pin SOP (MS-16), -40 to 125 degC, Pb-Free, Tape and Reel; Manufacturer: Linear Technology; PartNumber: LT3748IMS#TRPBF; Number of Outputs: 1; PackageReference: MS-16; PackageDescription: 12-Pin Plastic MSOP, Body 4.039 x 3 mm, Pitch 0.5 mm; Supplier 1: Digi-Key; Supplier Part Number 1: LT3748IMS#TRPBF-ND; RoHS: TRUE
footprint LT-MS-16-4PR_N (SOP, 12-Leads, Body 4.1x3.1mm, Pitch 0.5mm, IPC Medium Density)
footprint LT-MS-16-4PR_L (SOP, 12-Leads, Body 4.1x3.1mm, Pitch 0.5mm, IPC High Density)
footprint LT-MS-16-4PR_M (SOP, 12-Leads, Body 4.1x3.1mm, Pitch 0.5mm, IPC Low Density)
pins: 1 VIN (power) "Input Voltage. This pin supplies current to the internal start-up circuitry and is the reference voltage for the feedback circuitry connected to the RFB pin. This pin must be locally bypassed with a capacitor.", 3 EN/UVLO (in), 5 INTVCC (power) "Gate Driver Bias Voltage. This pin supplies current to the internal gate driver circuitry of the LT3748. The INTVCC pin must be locally bypassed with a capacitor. This pin may also be connected to VIN if a third winding is (See Datasheet)", 6 GATE (out) "N-Channel MOSFET Gate Driver Output. Switches between INTVCC and GND.", 7 SENSE (in) "The Current Sense Input for the Control Loop. Kelvin connect this pin to the positive terminal of the switch current sense resistor, RSENSE, in the source of the N-channel MOSFET. The negative terminal of the current sense (See Datasheet)", 8 GND (power) "Ground.", 9 GND (power) "Ground.", 10 SS (in) "Soft-Start Pin. This pin delays start-up and clamps VC pin voltage. Soft-start timing is set by the size of the external capacitor at the pin. Switching starts when VSS reaches ~0.65V.", 11 VC "Compensation Pin for the Internal Error Amplifier. Connect a series RC from this pin to ground to compensate the switching regulator. A 100pF capacitor in parallel helps eliminate noise.", 12 TC "Output Voltage Temperature Compensation. Connect a resistor to ground to produce a current proportional to absolute temperature to be sourced into the RREF node. ITC = 0.55V/RTC.", 14 RREF (in) "Input Pin for the External Ground-Referred Reference Resistor. The resistor at this pin should be 6.04k, but for convenience in selecting a resistor divider ratio, the value may range from 5.76k to 6.34k. The resistor should (See Datasheet)", 16 RFB (in) "Input Pin for the External Feedback Resistor. This pin is connected to the transformer primary at the external MOSFET power switch. The ratio of this resistor to the RREF resistor, times the internal bandgap reference, (See Datasheet)"

## LT3750EMS
designator U?
Capacitor Charger Controller, 10-pin SOP (MS-10), -40 to 85 degC; Manufacturer: Linear Technology; PartNumber: LT3750EMS; Number of Outputs: 1; PackageReference: MS-10; PackageDescription: 10-Pin Plastic MSOP, Body 3 x 3 mm, Pitch 0.5 mm; Supplier 1: Newark; Supplier Part Number 1: 57M8590; RoHS: FALSE
footprint LT-MS-10_N (SOP, 10-Leads, Body 3.1x3.1mm, Pitch 0.5mm, IPC Medium Density)
footprint LT-MS-10_L (SOP, 10-Leads, Body 3.1x3.1mm, Pitch 0.5mm, IPC High Density)
footprint LT-MS-10_M (SOP, 10-Leads, Body 3.1x3.1mm, Pitch 0.5mm, IPC Low Density)
pins: 1 VTRANS (power) "Transformer Supply Pin. Powers the primary coil of the transformer as well as internal circuitry that performs boundary mode detection. Bypass at the pin with a 1uF to 10uF capacitor. Bypass the primary winding of the (See Datasheet)", 2 ~{DONE} (oc) "Open Collector Indication Pin. When target output voltage is reached, an NPN transistor turns on. Requires a pull-up resistor or current source. Any fault conditions such as thermal shutdown or undervoltage lockout will also (See Datasheet)", 3 CHARGE (in) "Charge Pin. Initiates a new charge cycle when brought high or discontinues charging and puts part into shutdown when low. To properly enable the device, a step input with a minimum ramp rate of 1V/us is required. Drive to 1.(See Datasheet)", 4 VCC (power) "Input Supply Pin. Bypass locally with a ceramic capacitor. A 1uF to 10uF ceramic capacitor should be sufficient for most applications.", 5 GND (power) "Ground Pin. Connect directly to local ground plane.", 6 SOURCE (in) "Source Pin. Senses NMOS drain current. Connect NMOS source terminal and current sense resistor to this pin. The current limit is 78mV/RSENSE.", 7 GATE (out) "Gate Pin. Connect NMOS gate terminal to this pin. Internal gate driver will drive voltage to within VCC - 2V during each switching cycle.", 8 RDCM (in) "Discontinuous Mode Sense Pin. Senses when current in transformer has decayed to zero and initiates a new charge cycle if output voltage target has not been reached. Place a resistor between this pin and the drain of the NMOS.(See Datasheet)", 9 RVOUT (in) "Output Voltage VI Converter Pin. Develops a current proportional to output capacitor voltage. Connect a resistor between this pin and the drain of the NMOS.", 10 RBG (in) "Output Voltage Sense Pin. Senses the voltage across the RBG resistor, which is proportional to the current flowing into the RVOUT pin. When voltage equals 1.24V, charging is disabled and D\O\N\E\ pin goes low. Connect a (See Datasheet)"

## LT3750EMS#PBF
designator U?
Capacitor Charger Controller, 10-pin SOP (MS-10), -40 to 85 degC, Pb-Free; Manufacturer: Linear Technology; PartNumber: LT3750EMS#PBF; Number of Outputs: 1; PackageReference: MS-10; PackageDescription: 10-Pin Plastic MSOP, Body 3 x 3 mm, Pitch 0.5 mm; Supplier 1: Digi-Key; Supplier Part Number 1: LT3750EMS#PBF-ND; RoHS: TRUE
footprint LT-MS-10_N (SOP, 10-Leads, Body 3.1x3.1mm, Pitch 0.5mm, IPC Medium Density)
footprint LT-MS-10_L (SOP, 10-Leads, Body 3.1x3.1mm, Pitch 0.5mm, IPC High Density)
footprint LT-MS-10_M (SOP, 10-Leads, Body 3.1x3.1mm, Pitch 0.5mm, IPC Low Density)
pins: 1 VTRANS (power) "Transformer Supply Pin. Powers the primary coil of the transformer as well as internal circuitry that performs boundary mode detection. Bypass at the pin with a 1uF to 10uF capacitor. Bypass the primary winding of the (See Datasheet)", 2 ~{DONE} (oc) "Open Collector Indication Pin. When target output voltage is reached, an NPN transistor turns on. Requires a pull-up resistor or current source. Any fault conditions such as thermal shutdown or undervoltage lockout will also (See Datasheet)", 3 CHARGE (in) "Charge Pin. Initiates a new charge cycle when brought high or discontinues charging and puts part into shutdown when low. To properly enable the device, a step input with a minimum ramp rate of 1V/us is required. Drive to 1.(See Datasheet)", 4 VCC (power) "Input Supply Pin. Bypass locally with a ceramic capacitor. A 1uF to 10uF ceramic capacitor should be sufficient for most applications.", 5 GND (power) "Ground Pin. Connect directly to local ground plane.", 6 SOURCE (in) "Source Pin. Senses NMOS drain current. Connect NMOS source terminal and current sense resistor to this pin. The current limit is 78mV/RSENSE.", 7 GATE (out) "Gate Pin. Connect NMOS gate terminal to this pin. Internal gate driver will drive voltage to within VCC - 2V during each switching cycle.", 8 RDCM (in) "Discontinuous Mode Sense Pin. Senses when current in transformer has decayed to zero and initiates a new charge cycle if output voltage target has not been reached. Place a resistor between this pin and the drain of the NMOS.(See Datasheet)", 9 RVOUT (in) "Output Voltage VI Converter Pin. Develops a current proportional to output capacitor voltage. Connect a resistor between this pin and the drain of the NMOS.", 10 RBG (in) "Output Voltage Sense Pin. Senses the voltage across the RBG resistor, which is proportional to the current flowing into the RVOUT pin. When voltage equals 1.24V, charging is disabled and D\O\N\E\ pin goes low. Connect a (See Datasheet)"